# EAGLE library part SR1X12 (library divers)
Rotary Switch 1*12 The dot in the symbol denotes the leftmost contact of the rotary switch (counterclockwise limit)
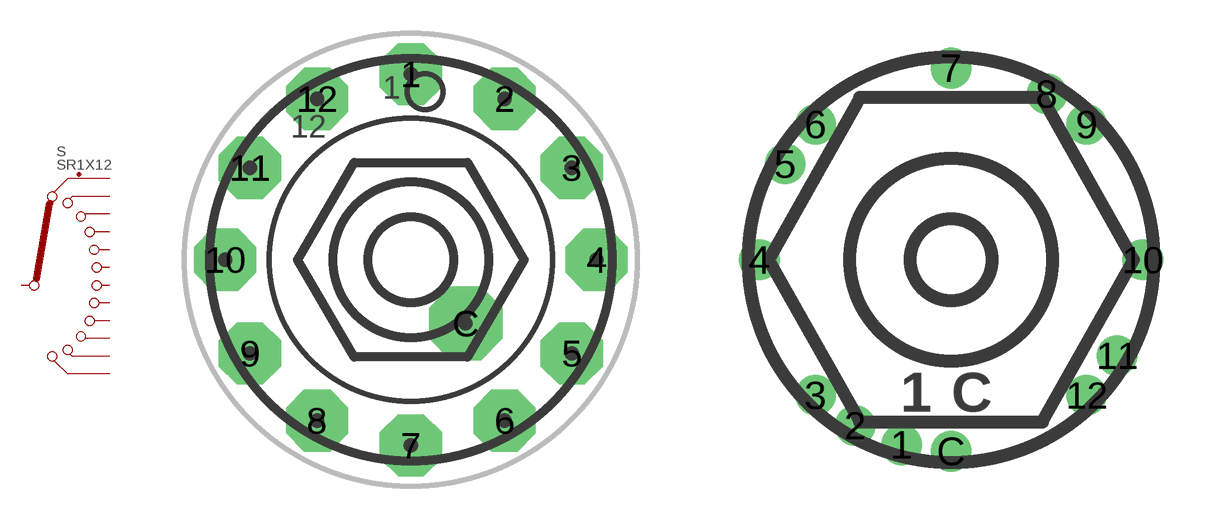
[diagram p12: symbol with the pads of SR1X12-ELMA1; footprints SR1X12-ELMA1, SR1X12-MARQUARDT9037]

Designator prefix S

## SR1X12  [SR1X12-ELMA1]
1  1
2  2
3  3
4  4
5  5
6  6
7  7
8  8
9  9
10  10
11  11
12  12
C  C

## SR1X12-MARQUARDT9037  [SR1X12-MARQUARDT9037]
Pads as for SR1X12-ELMA1

## SR1X12-ELMA1  [SR1X12-ELMA1]
Pads as for SR1X12-ELMA1

## SR1X12-MARQUARDT9033R  [SR1X12-MARQUARDT9033R]
Pads as for SR1X12-ELMA1

## SR1X12-MARQUARDT9033N  [SR1X12-MARQUARDT9033N]
Pads as for SR1X12-ELMA1

## Footprint SR1X12-ELMA1 (pad centres in mm)
Rotary Switch 1*12 (18mm) - ELMA Typ 1
drill 1.295 pad 2.794 octagon: 1 0,8.334; 2 4.207,7.223; 3 7.223,4.128; 4 8.334,0; 5 7.223,-4.207; 6 4.207,-7.223; 7 0,-8.334; 8 -4.207,-7.223; 9 -7.223,-4.207; 10 -8.334,0; 11 -7.223,4.128; 12 -4.207,7.223
drill 1.499 pad 3.302 octagon: C 2.461,-2.857

## Footprint SR1X12-MARQUARDT9037 (pad centres in mm)
Rotary Switch 1*12 (12.7mm) - Marquardt 9037.0100
drill 0.686 pad 1.27 round: 1 -1.553,-5.795; 2 -3,-5.196; 3 -4.243,-4.243; 4 -6,0; 5 -5.196,3; 6 -4.243,4.243; 7 0,6; 8 3,5.196; 9 4.243,4.243; 10 6,0; 11 5.196,-3; 12 4.243,-4.243; C 0,-6

## Footprint SR1X12-MARQUARDT9033R (pad centres in mm)
Rotary Switch 1*12 (16mm), reduced pads - Marquardt 9033 series
drill 0.991 pad 1.651 round: 1 2.375,-4.114; 2 0,-4.75; 3 -2.375,-4.113; 4 -4.114,-2.375; 5 -4.75,0; 6 -4.114,2.375; 7 -2.375,4.114; 8 0,4.75; 9 2.375,4.114; 10 4.114,2.375; 11 4.75,0; 12 4.114,-2.375; C 0,-1.5

## Footprint SR1X12-MARQUARDT9033N (pad centres in mm)
Rotary Switch 1*12 (16mm) - Marquardt 9033 series
drill 0.991 pad 2.032 round: 1 2.375,-4.114; 2 0,-4.75; 3 -2.375,-4.113; 4 -4.114,-2.375; 5 -4.75,0; 6 -4.114,2.375; 7 -2.375,4.114; 8 0,4.75; 9 2.375,4.114; 10 4.114,2.375; 11 4.75,0; 12 4.114,-2.375; C 0,-1.5